# EAGLE library part TCA9543APWR (library TCA9543APWR)
2-Channel I2C Bus Switch With Interrupt Logic and Reset Source: Datasheet <http://www.ti.com/lit/gpn/tca9543a>
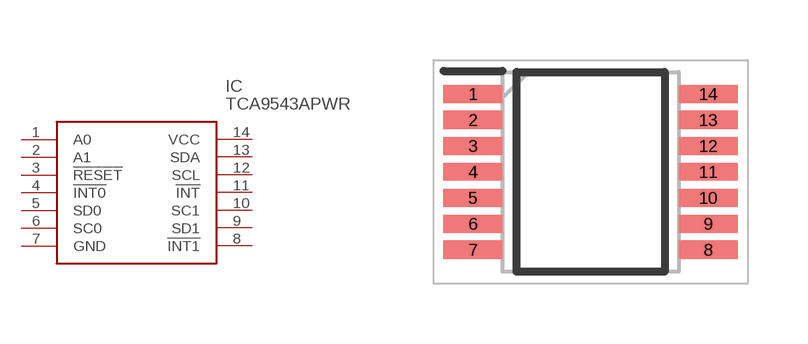
[diagram p0: symbol with the pads of SOP65P640X120-14N; footprint SOP65P640X120-14N]

Designator prefix IC

## TCA9543APWR (Description: 2-Channel I2C Bus Switch With Interrupt Logic and Reset; Height: 1.2mm; Manufacturer_Name: Texas Instruments; Manufacturer_Part_Number: TCA9543APWR; Mouser_Part_Number: 595-TCA9543APWR; Mouser_Price-Stock: https://www.mouser.co.uk/ProductDetail/Texas-Instruments/TCA9543APWR?qs=p08Uhw9w2Fzm36ZpNDVXHw%3D%3D)  [SOP65P640X120-14N]
1  A0
2  A1
3  !RESET
4  !INT0
5  SD0
6  SC0
7  GND
8  !INT1
9  SD1
10  SC1
11  !INT
12  SCL
13  SDA
14  VCC

## Footprint SOP65P640X120-14N (pad centres in mm)
PW (R-PDSO-G14)
smd 1.475 x 0.45: 1 -2.938,1.95; 2 -2.938,1.3; 3 -2.938,0.65; 4 -2.938,0; 5 -2.938,-0.65; 6 -2.938,-1.3; 7 -2.938,-1.95; 8 2.938,-1.95; 9 2.938,-1.3; 10 2.938,-0.65; 11 2.938,0; 12 2.938,0.65; 13 2.938,1.3; 14 2.938,1.95